# EAGLE library part TPS6103X (library Ava)
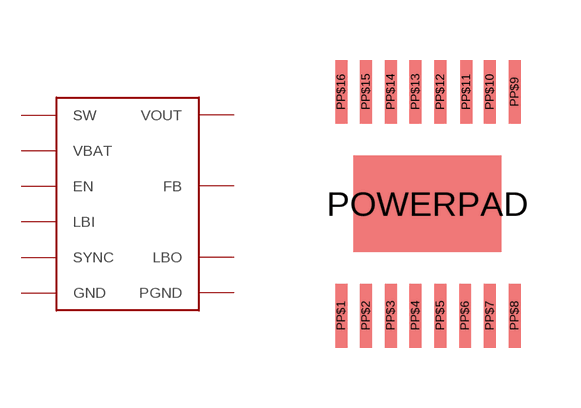
[diagram p51: symbol with the pads of TI_POWERPAD_HTSSOP(R-PDSO-G16); footprint TI_POWERPAD_HTSSOP(R-PDSO-G16)]

Designator prefix -

## TPS6103X  [TI_POWERPAD_HTSSOP(R-PDSO-G16)]
POWERPAD  GND  pwr
PP$1  SW  pwr
PP$2  SW  pwr
PP$3  PGND  pwr
PP$4  PGND  pwr
PP$5  PGND  pwr
PP$6  VBAT  pwr
PP$7  LBI  pwr
PP$8  SYNC  pwr
PP$9  EN  pwr
PP$10  LBO  pwr
PP$11  GND  pwr
PP$12  FB  pwr
PP$13  VOUT  pwr
PP$14  VOUT  pwr
PP$15  VOUT  pwr

## Footprint TI_POWERPAD_HTSSOP(R-PDSO-G16) (pad centres in mm)
smd 3.7 x 2.4: POWERPAD 0,0
smd 0.3 x 1.6: PP$1 -2.155,-2.8; PP$2 -1.535,-2.8; PP$3 -0.915,-2.8; PP$4 -0.295,-2.8; PP$5 0.325,-2.8; PP$6 0.945,-2.8; PP$7 1.565,-2.8; PP$8 2.185,-2.8; PP$9 2.185,2.8; PP$10 1.565,2.8; PP$11 0.975,2.8; PP$12 0.325,2.8; PP$13 -0.295,2.8; PP$14 -0.915,2.8; PP$15 -1.535,2.8; PP$16 -2.155,2.8